# EAGLE library part ISO1541 (library magzor)
low-power bidirectional I2C isolator
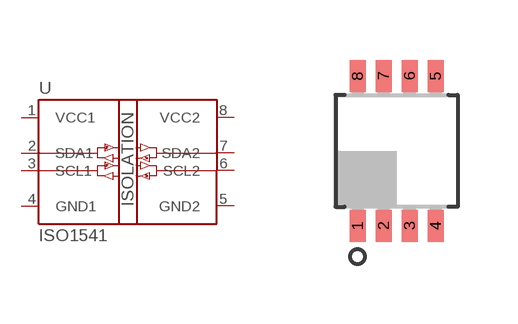
[diagram p16: symbol with the pads of R-PDSO-G8; footprint R-PDSO-G8]

Designator prefix U

## ISO1541D*  [R-PDSO-G8]
1  VCC1
2  SDA1
3  SCL1
4  GND1
5  GND2
6  SCL2
7  SDA2
8  VCC2

## Footprint R-PDSO-G8 (pad centres in mm)
TI plastic small outline package
smd 0.4 x 0.8: 1 -0.975,-1.875; 2 -0.325,-1.875; 3 0.325,-1.875; 4 0.975,-1.875; 5 0.975,1.875; 6 0.325,1.875; 7 -0.325,1.875; 8 -0.975,1.875